# Altium schematic symbol library my_sch_lib.SchLib: 7 symbols
Pins are listed as number, name and electrical type; pins without a type are passive.

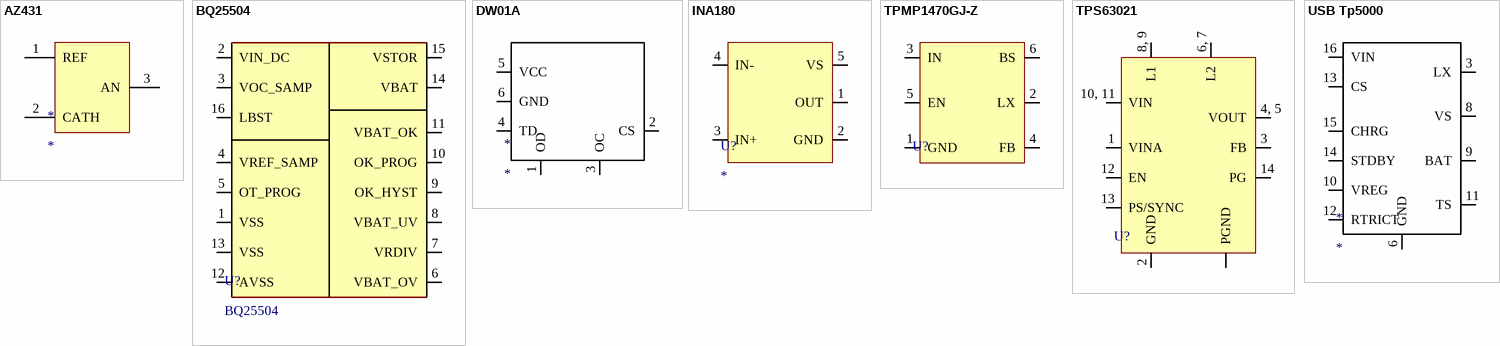
[diagram p0: symbols AZ431 to USB Tp5000]

## AZ431
designator *
pins: 1 REF, 2 CATH, 3 AN

## BQ25504
designator U?
footprint BQ25504RGTT
pins: 1 VSS, 2 VIN_DC, 3 VOC_SAMP, 4 VREF_SAMP, 5 OT_PROG, 6 VBAT_OV, 7 VRDIV, 8 VBAT_UV, 9 OK_HYST, 10 OK_PROG, 11 VBAT_OK, 12 AVSS, 13 VSS, 14 VBAT, 15 VSTOR, 16 LBST

## DW01A
designator *
footprint SOT23-6
pins: 1 OD, 2 CS, 3 OC, 4 TD, 5 VCC, 6 GND

## INA180
designator U?
footprint SOT23-5 (SOT23, 5-Leads, Body 2,90x2,80mm, Pitch 0,95mm, IPC Low Density)
pins: 1 OUT, 2 GND, 3 IN+, 4 IN-, 5 VS

## TPMP1470GJ-Z
designator U?
footprint SOT23-6
pins: 1 GND, 2 LX, 3 IN, 4 FB, 5 EN, 6 BS

## TPS63021
designator U?  (value not drawn)
footprint R-VSON-N14
pins: 1 VINA, 2 GND, 3 FB, 4, 5 VOUT, 6, 7 L2, 8, 9 L1, 10, 11 VIN, 12 EN, 13 PS/SYNC, 14 PG, PGND

## USB Tp5000
designator *
pins: 3 LX, 6 GND, 8 VS, 9 BAT, 10 VREG, 11 TS, 12 RTRICT, 13 CS, 14 STDBY, 15 CHRG, 16 VIN